# Altium schematic symbol library Molex Pico SPOX 2 POS.SchLib: 1 symbol
Pins are listed as number, name and electrical type; pins without a type are passive.

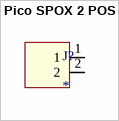
[diagram p0: symbol Pico SPOX 2 POS]

## Pico SPOX 2 POS
designator J?
footprint Molex Pico SPOX 2 POS
pins: 1, 2